# Altium schematic symbol library SCH - MCU - NUVOTON - NUVOTON M0518LD2AE.SchLib: 1 symbol
Pins are listed as number, name and electrical type; pins without a type are passive.

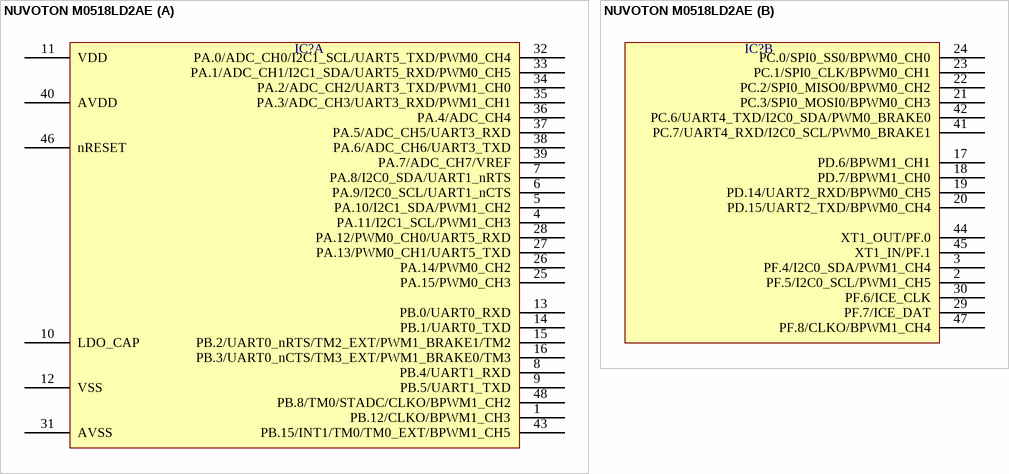
[diagram p0: symbol NUVOTON M0518LD2AE]

## NUVOTON M0518LD2AE
designator IC?  (value not drawn)
part A pins: 1 PB.12/CLKO/BPWM1_CH3, 4 PA.11/I2C1_SCL/PWM1_CH3, 5 PA.10/I2C1_SDA/PWM1_CH2, 6 PA.9/I2C0_SCL/UART1_nCTS, 7 PA.8/I2C0_SDA/UART1_nRTS, 8 PB.4/UART1_RXD, 9 PB.5/UART1_TXD, 10 LDO_CAP, 11 VDD, 12 VSS, 13 PB.0/UART0_RXD, 14 PB.1/UART0_TXD, 15 PB.2/UART0_nRTS/TM2_EXT/PWM1_BRAKE1/TM2, 16 PB.3/UART0_nCTS/TM3_EXT/PWM1_BRAKE0/TM3, 25 PA.15/PWM0_CH3, 26 PA.14/PWM0_CH2, 27 PA.13/PWM0_CH1/UART5_TXD, 28 PA.12/PWM0_CH0/UART5_RXD, 31 AVSS, 32 PA.0/ADC_CH0/I2C1_SCL/UART5_TXD/PWM0_CH4, 33 PA.1/ADC_CH1/I2C1_SDA/UART5_RXD/PWM0_CH5, 34 PA.2/ADC_CH2/UART3_TXD/PWM1_CH0, 35 PA.3/ADC_CH3/UART3_RXD/PWM1_CH1, 36 PA.4/ADC_CH4, 37 PA.5/ADC_CH5/UART3_RXD, 38 PA.6/ADC_CH6/UART3_TXD, 39 PA.7/ADC_CH7/VREF, 40 AVDD, 43 PB.15/INT1/TM0/TM0_EXT/BPWM1_CH5, 46 nRESET, 48 PB.8/TM0/STADC/CLKO/BPWM1_CH2
part B pins: 2 PF.5/I2C0_SCL/PWM1_CH5, 3 PF.4/I2C0_SDA/PWM1_CH4, 17 PD.6/BPWM1_CH1, 18 PD.7/BPWM1_CH0, 19 PD.14/UART2_RXD/BPWM0_CH5, 20 PD.15/UART2_TXD/BPWM0_CH4, 21 PC.3/SPI0_MOSI0/BPWM0_CH3, 22 PC.2/SPI0_MISO0/BPWM0_CH2, 23 PC.1/SPI0_CLK/BPWM0_CH1, 24 PC.0/SPI0_SS0/BPWM0_CH0, 29 PF.7/ICE_DAT, 30 PF.6/ICE_CLK, 41 PC.7/UART4_RXD/I2C0_SCL/PWM0_BRAKE1, 42 PC.6/UART4_TXD/I2C0_SDA/PWM0_BRAKE0, 44 XT1_OUT/PF.0, 45 XT1_IN/PF.1, 47 PF.8/CLKO/BPWM1_CH4